# Altium footprint library DISP - LED.PcbLib: 18 footprints (part 1 of 2)
Each footprint in its own frame and in the unit in brackets; x right, y up, seen from the top. Pads: shape width x height; smd on the part's side, far side on the other; paste and mask are expansions set on the pad; w line width, h text height; cw(c..) or ccw(c..) is an arc to the next point about the centre after c.
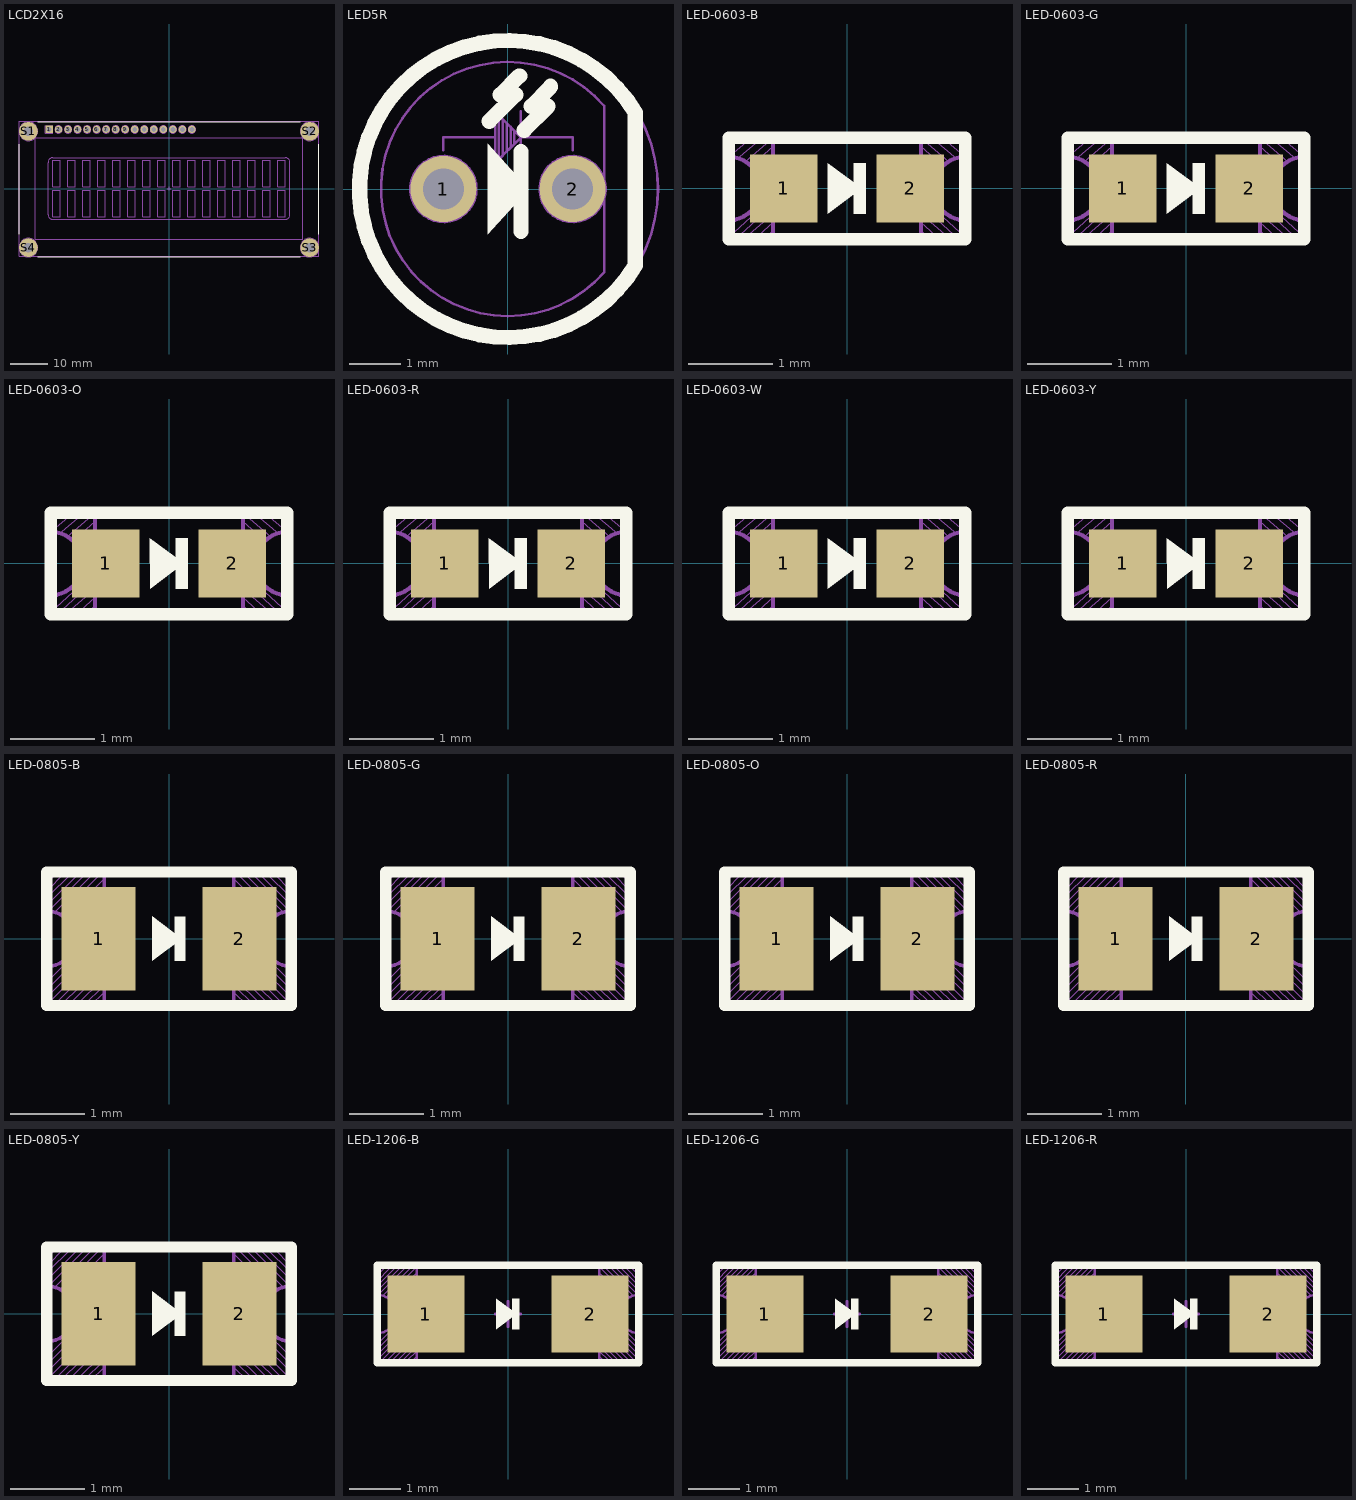
[diagram p0: the footprints below, top view; thin cyan lines are the x and y axes]

## LCD2X16 [mm]
pads (20):
  rect 2x2 hole 1.3: 1(-32,15.75)
  round 2 hole 1.3: 2(-29.46,15.75) 3(-26.92,15.75) 4(-24.38,15.75) 5(-21.84,15.75) 6(-19.3,15.75) 7(-16.76,15.75) 8(-14.22,15.75) 9(-11.68,15.75) 10(-9.14,15.75) 11(-6.6,15.75) 12(-4.06,15.75) 13(-1.52,15.75) 14(1.02,15.75) 15(3.56,15.75) 16(6.1,15.75)
  round 5 hole 2.5: S1(-37.5,15.25) S2(37.5,15.25) S3(37.5,-15.75) S4(-37.5,-15.75)
Top Overlay:
  lines w0.3: -40,-12.25 -40,11.75 ; -35,-18.25 35,-18.25 ; -35,17.75 35,17.75 ; 40,-12.25 40,11.75
Top HCB:
  drawing of 179 lines, arcs and shapes, not listed
3D body "User Library-LCD-5.STEP": height 12.8, standoff -5.5, extent -40,-18 40,18

## LED5R [mm] "LED, RED, 2 LEAD, 5mm"
height 8.6
pads (2):
  round 1.3 hole 0.8: 1(-1.27,0) 2(1.27,0)
Top Overlay:
  region: 0.406,0 -0.394,0.889 -0.394,-0.889
  lines w0.3: -0.368,1.333 0.152,1.854 -0.152,1.854 0.216,2.222 0.229,2.222 ; 0.254,-0.838 0.254,0.737 ; 0.318,1.156 0.787,1.626 0.457,1.626 0.838,2.007 0.838,2.019 ; 2.505,-1.503 cw(c0,0) 2.505,1.503 2.505,-1.503
Top HCB:
  circle w0.05: c1.27,0 r0.65
  circle w0.05: c-1.27,0 r0.65
  circle w0.05: c0,0 r2.95
  lines w0.05: -1.27,0.762 -1.27,1.016 -0.254,1.016 ; -0.254,0 0.254,0 ; -0.178,1.448 -0.178,0.584 ; -0.102,1.372 -0.102,0.66 -0.178,0.584 ; -0.025,1.295 -0.025,0.737 0.051,0.813 ; 0,-0.25 0,0.25 ; 0.051,1.219 0.051,0.813 ; 0.127,1.143 0.127,0.889 0.051,0.813 ; 0.254,0.508 0.254,1.524 ; 1.27,0.762 1.27,1.016 1.016,1.016 0.254,1.016 ; 1.889,1.637 ccw(c0,0) 1.897,-1.629 ; 1.892,-1.629 1.892,1.637 ; -0.254,0.508 -0.254,1.524 0.254,1.016 ; -0.254,0.508 0.254,1.016 ; -0.254,0.508 -0.178,0.584
3D body "SW3dPS-LEDd5R.STEP": height 12.31, standoff -2.49, extent -2.98,-3.01 2.44,3.01

## LED-0603-B [mm] "Chip Diode, 2-Leads, Body 1.60x0.80mm, IPC Medium Density"
height 0.36
pads (2):
  rect 0.8x0.8 smd: 1(-0.75,0) 2(0.75,0)
Top Overlay:
  region: 0.225,0.3 0.075,0.3 0.075,-0.3 0.225,-0.3
  region: -0.225,-0.3 -0.225,0.3 0.175,0
  lines w0.15: -1.4,-0.6 -1.4,0.6 1.4,0.6 1.4,-0.6 -1.4,-0.6
Top HCB:
  lines w0.01: -1.4,-0.575 -0.875,-0.1 ; -1.4,-0.487 -1.4,-0.45 -1.225,-0.325 ; -1.4,0.375 -1.125,0.6 ; -1.4,0.487 -1.275,0.6 ; -1.325,-0.6 -0.877,-0.2 ; -1.3,0.35 -1,0.6 ; -1.238,-0.612 -0.863,-0.288 ; -1.2,0.325 -0.875,0.6 ; -1.125,0.275 -0.875,0.5 ; -1.1,-0.6 -0.876,-0.399 ; -1.1,0.2 -0.875,0.4 ; -1.05,0.15 -0.875,0.3 ; -1.025,-0.125 -0.875,0 ; -1.025,-0.025 -0.875,0.1 ; -1.025,0.075 -0.875,0.2 ; -1,-0.6 -0.875,-0.5 ; 0.863,-0.288 1.238,-0.612 ; 0.875,-0.5 1,-0.6 ; 0.876,-0.399 1.1,-0.6 ; 0.875,-0.1 1.4,-0.575 ; 0.875,0 1.025,-0.125 ; 0.875,0.1 1.025,-0.025 ; 0.875,0.2 1.025,0.075 ; 0.875,0.3 1.05,0.15 ; 0.875,0.4 1.1,0.2 ; 0.875,0.5 1.125,0.275 ; 0.875,0.6 1.2,0.325 ; 0.877,-0.2 1.325,-0.6 ; 1,0.6 1.3,0.35 ; 1.125,0.6 1.4,0.375 ; 1.225,-0.325 1.4,-0.45 ; 1.275,0.6 1.4,0.487
  lines w0.05: -0.875,-0.6 -0.875,0.6 ; -0.1,0 0.1,0 ; 0,-0.1 0,0.1 ; 0.875,-0.6 0.875,0.575 ; -1.4,-0.6 -1.4,-0.375 ccw(c-1.4,0) -1.4,0.375 -1.4,0.6 1.4,0.6 1.4,0.375 ccw(c1.4,0) 1.4,-0.375 1.4,-0.6 -1.4,-0.6
3D body "User Library-LED_0603_B.STEP": height 0.6, standoff 0, extent -0.8,-0.4 0.8,0.4

## LED-0603-G [mm] "Chip Diode, 2-Leads, Body 1.60x0.80mm, IPC Medium Density"
height 0.36
pads (2):
  rect 0.8x0.8 smd: 1(-0.75,0) 2(0.75,0)
Top Overlay:
  region: 0.225,0.3 0.075,0.3 0.075,-0.3 0.225,-0.3
  region: -0.225,-0.3 -0.225,0.3 0.175,0
  lines w0.15: -1.4,-0.6 1.4,-0.6 1.4,0.6 -1.4,0.6 -1.4,-0.6
Top HCB:
  lines w0.01: -1.4,-0.575 -0.875,-0.1 ; -1.4,-0.487 -1.4,-0.45 -1.225,-0.325 ; -1.4,0.375 -1.125,0.6 ; -1.4,0.487 -1.275,0.6 ; -1.325,-0.6 -0.877,-0.2 ; -1.3,0.35 -1,0.6 ; -1.238,-0.612 -0.863,-0.288 ; -1.2,0.325 -0.875,0.6 ; -1.125,0.275 -0.875,0.5 ; -1.1,-0.6 -0.876,-0.399 ; -1.1,0.2 -0.875,0.4 ; -1.05,0.15 -0.875,0.3 ; -1.025,-0.125 -0.875,0 ; -1.025,-0.025 -0.875,0.1 ; -1.025,0.075 -0.875,0.2 ; -1,-0.6 -0.875,-0.5 ; 0.863,-0.288 1.238,-0.612 ; 0.875,-0.5 1,-0.6 ; 0.876,-0.399 1.1,-0.6 ; 0.875,-0.1 1.4,-0.575 ; 0.875,0 1.025,-0.125 ; 0.875,0.1 1.025,-0.025 ; 0.875,0.2 1.025,0.075 ; 0.875,0.3 1.05,0.15 ; 0.875,0.4 1.1,0.2 ; 0.875,0.5 1.125,0.275 ; 0.875,0.6 1.2,0.325 ; 0.877,-0.2 1.325,-0.6 ; 1,0.6 1.3,0.35 ; 1.125,0.6 1.4,0.375 ; 1.225,-0.325 1.4,-0.45 ; 1.275,0.6 1.4,0.487
  lines w0.05: -0.875,-0.6 -0.875,0.6 ; -0.1,0 0.1,0 ; 0,-0.1 0,0.1 ; 0.875,-0.6 0.875,0.575 ; -1.4,-0.6 1.4,-0.6 1.4,-0.375 cw(c1.4,0) 1.4,0.375 1.4,0.6 -1.4,0.6 -1.4,0.375 cw(c-1.4,0) -1.4,-0.375 -1.4,-0.6
3D body "User Library-LED_0603_G.STEP": height 0.6, standoff 0, extent -0.8,-0.4 0.8,0.4

## LED-0603-O [mm] "Chip Diode, 2-Leads, Body 1.60x0.80mm, IPC Medium Density"
height 0.36
pads (2):
  rect 0.8x0.8 smd: 1(-0.75,0) 2(0.75,0)
Top Overlay:
  region: 0.225,0.3 0.075,0.3 0.075,-0.3 0.225,-0.3
  region: -0.225,-0.3 -0.225,0.3 0.175,0
  lines w0.15: -1.4,-0.6 1.4,-0.6 1.4,0.6 -1.4,0.6 -1.4,-0.6
Top HCB:
  lines w0.01: -1.4,-0.575 -0.875,-0.1 ; -1.4,-0.487 -1.4,-0.45 -1.225,-0.325 ; -1.4,0.375 -1.125,0.6 ; -1.4,0.487 -1.275,0.6 ; -1.325,-0.6 -0.877,-0.2 ; -1.3,0.35 -1,0.6 ; -1.238,-0.612 -0.863,-0.288 ; -1.2,0.325 -0.875,0.6 ; -1.125,0.275 -0.875,0.5 ; -1.1,-0.6 -0.876,-0.399 ; -1.1,0.2 -0.875,0.4 ; -1.05,0.15 -0.875,0.3 ; -1.025,-0.125 -0.875,0 ; -1.025,-0.025 -0.875,0.1 ; -1.025,0.075 -0.875,0.2 ; -1,-0.6 -0.875,-0.5 ; 0.863,-0.288 1.238,-0.612 ; 0.875,-0.5 1,-0.6 ; 0.876,-0.399 1.1,-0.6 ; 0.875,-0.1 1.4,-0.575 ; 0.875,0 1.025,-0.125 ; 0.875,0.1 1.025,-0.025 ; 0.875,0.2 1.025,0.075 ; 0.875,0.3 1.05,0.15 ; 0.875,0.4 1.1,0.2 ; 0.875,0.5 1.125,0.275 ; 0.875,0.6 1.2,0.325 ; 0.877,-0.2 1.325,-0.6 ; 1,0.6 1.3,0.35 ; 1.125,0.6 1.4,0.375 ; 1.225,-0.325 1.4,-0.45 ; 1.275,0.6 1.4,0.487
  lines w0.05: -0.875,-0.6 -0.875,0.6 ; -0.1,0 0.1,0 ; 0,-0.1 0,0.1 ; 0.875,-0.6 0.875,0.575 ; -1.4,-0.6 1.4,-0.6 1.4,-0.375 cw(c1.4,0) 1.4,0.375 1.4,0.6 -1.4,0.6 -1.4,0.375 cw(c-1.4,0) -1.4,-0.375 -1.4,-0.6
3D body "User Library-0603 LED_ora.step": height 0.7, standoff 0, extent -0.8,-0.4 0.8,0.4

## LED-0603-R [mm] "Chip Diode, 2-Leads, Body 1.60x0.80mm, IPC Medium Density"
height 0.36
pads (2):
  rect 0.8x0.8 smd: 1(-0.75,0) 2(0.75,0)
Top Overlay:
  region: 0.225,0.3 0.075,0.3 0.075,-0.3 0.225,-0.3
  region: -0.225,-0.3 -0.225,0.3 0.175,0
  lines w0.15: -1.4,-0.6 -1.4,0.6 1.4,0.6 1.4,-0.6 -1.4,-0.6
Top HCB:
  lines w0.01: -1.4,-0.575 -0.875,-0.1 ; -1.4,-0.487 -1.4,-0.45 -1.225,-0.325 ; -1.4,0.375 -1.125,0.6 ; -1.4,0.487 -1.275,0.6 ; -1.325,-0.6 -0.877,-0.2 ; -1.3,0.35 -1,0.6 ; -1.238,-0.612 -0.863,-0.288 ; -1.2,0.325 -0.875,0.6 ; -1.125,0.275 -0.875,0.5 ; -1.1,-0.6 -0.876,-0.399 ; -1.1,0.2 -0.875,0.4 ; -1.05,0.15 -0.875,0.3 ; -1.025,-0.125 -0.875,0 ; -1.025,-0.025 -0.875,0.1 ; -1.025,0.075 -0.875,0.2 ; -1,-0.6 -0.875,-0.5 ; 0.863,-0.288 1.238,-0.612 ; 0.875,-0.5 1,-0.6 ; 0.876,-0.399 1.1,-0.6 ; 0.875,-0.1 1.4,-0.575 ; 0.875,0 1.025,-0.125 ; 0.875,0.1 1.025,-0.025 ; 0.875,0.2 1.025,0.075 ; 0.875,0.3 1.05,0.15 ; 0.875,0.4 1.1,0.2 ; 0.875,0.5 1.125,0.275 ; 0.875,0.6 1.2,0.325 ; 0.877,-0.2 1.325,-0.6 ; 1,0.6 1.3,0.35 ; 1.125,0.6 1.4,0.375 ; 1.225,-0.325 1.4,-0.45 ; 1.275,0.6 1.4,0.487
  lines w0.05: -0.875,-0.6 -0.875,0.6 ; -0.1,0 0.1,0 ; 0,-0.1 0,0.1 ; 0.875,-0.6 0.875,0.575 ; -1.4,-0.6 1.4,-0.6 1.4,-0.375 cw(c1.4,0) 1.4,0.375 1.4,0.6 -1.4,0.6 -1.4,0.375 cw(c-1.4,0) -1.4,-0.375 -1.4,-0.6
3D body "User Library-LED_0603_R.STEP": height 0.6, standoff 0, extent -0.8,-0.4 0.8,0.4

## LED-0603-W [mm] "Chip Diode, 2-Leads, Body 1.60x0.80mm, IPC Medium Density"
height 0.36
pads (2):
  rect 0.8x0.8 smd: 1(-0.75,0) 2(0.75,0)
Top Overlay:
  region: 0.225,0.3 0.075,0.3 0.075,-0.3 0.225,-0.3
  region: -0.225,-0.3 -0.225,0.3 0.175,0
  lines w0.15: -1.4,-0.6 -1.4,0.6 1.4,0.6 1.4,-0.6 -1.4,-0.6
Top HCB:
  lines w0.01: -1.4,-0.575 -0.875,-0.1 ; -1.4,-0.487 -1.4,-0.45 -1.225,-0.325 ; -1.4,0.375 -1.125,0.6 ; -1.4,0.487 -1.275,0.6 ; -1.325,-0.6 -0.877,-0.2 ; -1.3,0.35 -1,0.6 ; -1.238,-0.612 -0.863,-0.288 ; -1.2,0.325 -0.875,0.6 ; -1.125,0.275 -0.875,0.5 ; -1.1,-0.6 -0.876,-0.399 ; -1.1,0.2 -0.875,0.4 ; -1.05,0.15 -0.875,0.3 ; -1.025,-0.125 -0.875,0 ; -1.025,-0.025 -0.875,0.1 ; -1.025,0.075 -0.875,0.2 ; -1,-0.6 -0.875,-0.5 ; 0.863,-0.288 1.238,-0.612 ; 0.875,-0.5 1,-0.6 ; 0.876,-0.399 1.1,-0.6 ; 0.875,-0.1 1.4,-0.575 ; 0.875,0 1.025,-0.125 ; 0.875,0.1 1.025,-0.025 ; 0.875,0.2 1.025,0.075 ; 0.875,0.3 1.05,0.15 ; 0.875,0.4 1.1,0.2 ; 0.875,0.5 1.125,0.275 ; 0.875,0.6 1.2,0.325 ; 0.877,-0.2 1.325,-0.6 ; 1,0.6 1.3,0.35 ; 1.125,0.6 1.4,0.375 ; 1.225,-0.325 1.4,-0.45 ; 1.275,0.6 1.4,0.487
  lines w0.05: -0.875,-0.6 -0.875,0.6 ; -0.1,0 0.1,0 ; 0,-0.1 0,0.1 ; 0.875,-0.6 0.875,0.575 ; -1.4,-0.6 -1.4,-0.375 ccw(c-1.4,0) -1.4,0.375 -1.4,0.6 1.4,0.6 1.4,0.375 ccw(c1.4,0) 1.4,-0.375 1.4,-0.6 -1.4,-0.6
3D body "User Library-LED_0603_WS.STEP": height 0.6, standoff 0, extent -0.8,-0.4 0.8,0.4

## LED-0603-Y [mm] "Chip Diode, 2-Leads, Body 1.60x0.80mm, IPC Medium Density"
height 0.36
pads (2):
  rect 0.8x0.8 smd: 1(-0.75,0) 2(0.75,0)
Top Overlay:
  region: 0.225,0.3 0.075,0.3 0.075,-0.3 0.225,-0.3
  region: -0.225,-0.3 -0.225,0.3 0.175,0
  lines w0.15: -1.4,-0.6 1.4,-0.6 1.4,0.6 -1.4,0.6 -1.4,-0.6
Top HCB:
  lines w0.01: -1.4,-0.575 -0.875,-0.1 ; -1.4,-0.487 -1.4,-0.45 -1.225,-0.325 ; -1.4,0.375 -1.125,0.6 ; -1.4,0.487 -1.275,0.6 ; -1.325,-0.6 -0.877,-0.2 ; -1.3,0.35 -1,0.6 ; -1.238,-0.612 -0.863,-0.288 ; -1.2,0.325 -0.875,0.6 ; -1.125,0.275 -0.875,0.5 ; -1.1,-0.6 -0.876,-0.399 ; -1.1,0.2 -0.875,0.4 ; -1.05,0.15 -0.875,0.3 ; -1.025,-0.125 -0.875,0 ; -1.025,-0.025 -0.875,0.1 ; -1.025,0.075 -0.875,0.2 ; -1,-0.6 -0.875,-0.5 ; 0.863,-0.288 1.238,-0.612 ; 0.875,-0.5 1,-0.6 ; 0.876,-0.399 1.1,-0.6 ; 0.875,-0.1 1.4,-0.575 ; 0.875,0 1.025,-0.125 ; 0.875,0.1 1.025,-0.025 ; 0.875,0.2 1.025,0.075 ; 0.875,0.3 1.05,0.15 ; 0.875,0.4 1.1,0.2 ; 0.875,0.5 1.125,0.275 ; 0.875,0.6 1.2,0.325 ; 0.877,-0.2 1.325,-0.6 ; 1,0.6 1.3,0.35 ; 1.125,0.6 1.4,0.375 ; 1.225,-0.325 1.4,-0.45 ; 1.275,0.6 1.4,0.487
  lines w0.05: -0.875,-0.6 -0.875,0.6 ; -0.1,0 0.1,0 ; 0,-0.1 0,0.1 ; 0.875,-0.6 0.875,0.575 ; -1.4,-0.6 1.4,-0.6 1.4,-0.375 cw(c1.4,0) 1.4,0.375 1.4,0.6 -1.4,0.6 -1.4,0.375 cw(c-1.4,0) -1.4,-0.375 -1.4,-0.6
3D body "User Library-LED_0603_Y.STEP": height 0.6, standoff 0, extent -0.8,-0.4 0.8,0.4

## LED-0805-B [mm] "LED-0805-Blue"
height 0.8
pads (2):
  rect 1x1.4 smd: 1(-0.95,0) 2(0.95,0)
Top Overlay:
  region: 0.225,0.3 0.075,0.3 0.075,-0.3 0.225,-0.3
  region: -0.225,-0.3 -0.225,0.3 0.175,0
  lines w0.15: -1.65,-0.9 -1.65,0.9 1.65,0.9 1.65,-0.9 -1.65,-0.9
Top HCB:
  lines w0.01: -1.65,0.45 -1.2,0.9 ; -1.65,0.55 -1.3,0.9 ; -1.65,0.637 -1.4,0.9 ; -1.65,0.75 -1.5,0.9 ; -1.643,-0.883 -0.868,-0.108 ; -1.643,-0.783 -0.875,-0.025 ; -1.643,-0.683 -0.881,0.08 ; -1.643,-0.583 -0.875,0.175 ; -1.638,0.362 -1.1,0.9 -1.127,0.9 ; -1.556,-0.895 -0.875,-0.225 ; -1.526,0.374 -1,0.9 ; -1.468,-0.908 -0.875,-0.325 ; -1.463,0.337 -0.9,0.9 ; -1.394,0.293 -0.881,0.806 ; -1.368,-0.908 -0.868,-0.408 ; -1.337,0.237 -0.874,0.7 ; -1.301,-0.14 -0.881,0.28 ; -1.301,0.06 -0.868,0.492 ; -1.288,0.173 -0.875,0.575 ; -1.275,0 -0.87,0.394 ; -1.25,-0.9 -0.875,-0.525 ; -1.15,-0.9 -0.875,-0.625 ; -1.056,-0.895 -0.875,-0.725 ; -0.968,-0.908 -0.875,-0.825 ; 0.868,-0.408 1.368,-0.908 ; 0.868,-0.108 1.643,-0.883 ; 0.868,0.492 1.301,0.06 ; 0.869,0.394 1.275,0 ; 0.874,0.7 1.337,0.237 ; 0.875,-0.825 0.968,-0.908 ; 0.875,-0.725 1.055,-0.895 ; 0.875,-0.625 1.15,-0.9 ; 0.875,-0.525 1.25,-0.9 ; 0.875,-0.325 1.468,-0.908 ; 0.875,-0.225 1.555,-0.895 ; 0.875,-0.025 1.643,-0.783 ; 0.875,0.175 1.643,-0.583 ; 0.875,0.575 1.288,0.173 ; 0.88,0.08 1.643,-0.683 ; 0.88,0.28 1.301,-0.14 ; 0.881,0.806 1.394,0.293 ; 0.9,0.9 1.463,0.337 ; 1,0.9 1.526,0.374 ; 1.126,0.9 1.1,0.9 1.637,0.362 ; 1.2,0.9 1.65,0.45 ; 1.3,0.9 1.65,0.55 ; 1.4,0.9 1.65,0.637 ; 1.5,0.9 1.65,0.75
  lines w0.05: -1.65,-0.375 ccw(c-1.65,0) -1.65,0.375 -1.65,0.9 1.65,0.9 1.65,0.375 ccw(c1.65,0) 1.65,-0.375 ; -1.65,-0.375 -1.65,-0.9 1.65,-0.9 1.65,-0.375 ; -0.875,-0.9 -0.875,0.9 ; -0.1,0 0.1,0 ; 0,-0.1 0,0.1 ; 0.875,-0.9 0.875,0.9
3D body "User Library-led_0805-blue.step": height 1.1, standoff 0, extent -1.01,-0.625 1.01,0.625

## LED-0805-G [mm] "LED-0805-Green"
height 0.8
pads (2):
  rect 1x1.4 smd: 1(-0.95,0) 2(0.95,0)
Top Overlay:
  region: 0.225,0.3 0.075,0.3 0.075,-0.3 0.225,-0.3
  region: -0.225,-0.3 -0.225,0.3 0.175,0
  lines w0.15: -1.65,-0.9 -1.65,0.9 1.65,0.9 1.65,-0.9 -1.65,-0.9
Top HCB:
  lines w0.01: -1.65,0.45 -1.2,0.9 ; -1.65,0.55 -1.3,0.9 ; -1.65,0.637 -1.4,0.9 ; -1.65,0.75 -1.5,0.9 ; -1.643,-0.883 -0.868,-0.108 ; -1.643,-0.783 -0.875,-0.025 ; -1.643,-0.683 -0.881,0.08 ; -1.643,-0.583 -0.875,0.175 ; -1.638,0.362 -1.1,0.9 -1.127,0.9 ; -1.556,-0.895 -0.875,-0.225 ; -1.526,0.374 -1,0.9 ; -1.468,-0.908 -0.875,-0.325 ; -1.463,0.337 -0.9,0.9 ; -1.394,0.293 -0.881,0.806 ; -1.368,-0.908 -0.868,-0.408 ; -1.337,0.237 -0.874,0.7 ; -1.301,-0.14 -0.881,0.28 ; -1.301,0.06 -0.868,0.492 ; -1.288,0.173 -0.875,0.575 ; -1.275,0 -0.87,0.394 ; -1.25,-0.9 -0.875,-0.525 ; -1.15,-0.9 -0.875,-0.625 ; -1.056,-0.895 -0.875,-0.725 ; -0.968,-0.908 -0.875,-0.825 ; 0.868,-0.408 1.368,-0.908 ; 0.868,-0.108 1.643,-0.883 ; 0.868,0.492 1.301,0.06 ; 0.869,0.394 1.275,0 ; 0.874,0.7 1.337,0.237 ; 0.875,-0.825 0.968,-0.908 ; 0.875,-0.725 1.055,-0.895 ; 0.875,-0.625 1.15,-0.9 ; 0.875,-0.525 1.25,-0.9 ; 0.875,-0.325 1.468,-0.908 ; 0.875,-0.225 1.555,-0.895 ; 0.875,-0.025 1.643,-0.783 ; 0.875,0.175 1.643,-0.583 ; 0.875,0.575 1.288,0.173 ; 0.88,0.08 1.643,-0.683 ; 0.88,0.28 1.301,-0.14 ; 0.881,0.806 1.394,0.293 ; 0.9,0.9 1.463,0.337 ; 1,0.9 1.526,0.374 ; 1.126,0.9 1.1,0.9 1.637,0.362 ; 1.2,0.9 1.65,0.45 ; 1.3,0.9 1.65,0.55 ; 1.4,0.9 1.65,0.637 ; 1.5,0.9 1.65,0.75
  lines w0.05: -1.65,-0.375 ccw(c-1.65,0) -1.65,0.375 -1.65,0.9 1.65,0.9 1.65,0.375 ccw(c1.65,0) 1.65,-0.375 ; -1.65,-0.375 -1.65,-0.9 1.65,-0.9 1.65,-0.375 ; -0.875,-0.9 -0.875,0.9 ; -0.1,0 0.1,0 ; 0,-0.1 0,0.1 ; 0.875,-0.9 0.875,0.9
3D body "User Library-led_0805-Green.step": height 1.1, standoff 0, extent -1.01,-0.625 1.01,0.625

## LED-0805-O [mm] "LED-0805-Orange"
height 0.8
pads (2):
  rect 1x1.4 smd: 1(-0.95,0) 2(0.95,0)
Top Overlay:
  region: 0.225,0.3 0.075,0.3 0.075,-0.3 0.225,-0.3
  region: -0.225,-0.3 -0.225,0.3 0.175,0
  lines w0.15: -1.65,-0.9 -1.65,0.9 1.65,0.9 1.65,-0.9 -1.65,-0.9
Top HCB:
  lines w0.01: -1.65,0.45 -1.2,0.9 ; -1.65,0.55 -1.3,0.9 ; -1.65,0.637 -1.4,0.9 ; -1.65,0.75 -1.5,0.9 ; -1.643,-0.883 -0.868,-0.108 ; -1.643,-0.783 -0.875,-0.025 ; -1.643,-0.683 -0.881,0.08 ; -1.643,-0.583 -0.875,0.175 ; -1.638,0.362 -1.1,0.9 -1.127,0.9 ; -1.556,-0.895 -0.875,-0.225 ; -1.526,0.374 -1,0.9 ; -1.468,-0.908 -0.875,-0.325 ; -1.463,0.337 -0.9,0.9 ; -1.394,0.293 -0.881,0.806 ; -1.368,-0.908 -0.868,-0.408 ; -1.337,0.237 -0.874,0.7 ; -1.301,-0.14 -0.881,0.28 ; -1.301,0.06 -0.868,0.492 ; -1.288,0.173 -0.875,0.575 ; -1.275,0 -0.87,0.394 ; -1.25,-0.9 -0.875,-0.525 ; -1.15,-0.9 -0.875,-0.625 ; -1.056,-0.895 -0.875,-0.725 ; -0.968,-0.908 -0.875,-0.825 ; 0.868,-0.408 1.368,-0.908 ; 0.868,-0.108 1.643,-0.883 ; 0.868,0.492 1.301,0.06 ; 0.869,0.394 1.275,0 ; 0.874,0.7 1.337,0.237 ; 0.875,-0.825 0.968,-0.908 ; 0.875,-0.725 1.055,-0.895 ; 0.875,-0.625 1.15,-0.9 ; 0.875,-0.525 1.25,-0.9 ; 0.875,-0.325 1.468,-0.908 ; 0.875,-0.225 1.555,-0.895 ; 0.875,-0.025 1.643,-0.783 ; 0.875,0.175 1.643,-0.583 ; 0.875,0.575 1.287,0.173 ; 0.88,0.08 1.643,-0.683 ; 0.88,0.28 1.301,-0.14 ; 0.881,0.806 1.393,0.293 ; 0.9,0.9 1.463,0.337 ; 1,0.9 1.526,0.374 ; 1.126,0.9 1.1,0.9 1.637,0.362 ; 1.2,0.9 1.65,0.45 ; 1.3,0.9 1.65,0.55 ; 1.4,0.9 1.65,0.637 ; 1.5,0.9 1.65,0.75
  lines w0.05: -1.65,-0.375 -1.65,-0.9 1.65,-0.9 1.65,-0.375 ; -1.65,0.375 -1.65,0.9 1.65,0.9 1.65,0.375 ccw(c1.65,0) 1.65,-0.375 ; -1.65,-0.375 ccw(c-1.65,0) -1.65,0.375 ; -0.875,-0.9 -0.875,0.9 ; -0.1,0 0.1,0 ; 0,-0.1 0,0.1 ; 0.875,-0.9 0.875,0.9
3D body "User Library-led_0805-orange.step": height 1.1, standoff 0, extent -1.01,-0.625 1.01,0.625

## LED-0805-R [mm] "LED-0805-Red"
height 0.02
pads (2):
  rect 1x1.4 smd: 1(-0.95,0) 2(0.95,0)
Top Overlay:
  region: 0.225,0.3 0.075,0.3 0.075,-0.3 0.225,-0.3
  region: -0.225,-0.3 -0.225,0.3 0.175,0
  lines w0.15: -1.65,-0.9 -1.65,0.9 1.65,0.9 1.65,-0.9 -1.65,-0.9
Top HCB:
  lines w0.01: -1.65,0.45 -1.2,0.9 ; -1.65,0.55 -1.3,0.9 ; -1.65,0.637 -1.4,0.9 ; -1.65,0.75 -1.5,0.9 ; -1.643,-0.882 -0.868,-0.107 ; -1.643,-0.782 -0.875,-0.025 ; -1.643,-0.682 -0.88,0.08 ; -1.643,-0.582 -0.875,0.175 ; -1.637,0.363 -1.1,0.9 -1.126,0.9 ; -1.555,-0.895 -0.875,-0.225 ; -1.526,0.374 -1,0.9 ; -1.468,-0.907 -0.875,-0.325 ; -1.463,0.337 -0.9,0.9 ; -1.394,0.293 -0.881,0.806 ; -1.368,-0.907 -0.868,-0.407 ; -1.337,0.237 -0.874,0.7 ; -1.301,-0.14 -0.88,0.28 ; -1.301,0.06 -0.868,0.493 ; -1.288,0.173 -0.875,0.575 ; -1.275,0 -0.869,0.394 ; -1.25,-0.9 -0.875,-0.525 ; -1.15,-0.9 -0.875,-0.625 ; -1.055,-0.895 -0.875,-0.725 ; -0.968,-0.907 -0.875,-0.825 ; 0.868,-0.407 1.368,-0.907 ; 0.868,-0.107 1.643,-0.882 ; 0.868,0.493 1.301,0.06 ; 0.87,0.394 1.275,0 ; 0.874,0.7 1.337,0.237 ; 0.875,-0.825 0.968,-0.907 ; 0.875,-0.725 1.056,-0.895 ; 0.875,-0.625 1.15,-0.9 ; 0.875,-0.525 1.25,-0.9 ; 0.875,-0.325 1.468,-0.907 ; 0.875,-0.225 1.556,-0.895 ; 0.875,-0.025 1.643,-0.782 ; 0.875,0.175 1.643,-0.582 ; 0.875,0.575 1.288,0.173 ; 0.881,0.08 1.643,-0.682 ; 0.881,0.28 1.301,-0.14 ; 0.881,0.806 1.394,0.293 ; 0.9,0.9 1.463,0.337 ; 1,0.9 1.526,0.374 ; 1.127,0.9 1.1,0.9 1.638,0.363 ; 1.2,0.9 1.65,0.45 ; 1.3,0.9 1.65,0.55 ; 1.4,0.9 1.65,0.637 ; 1.5,0.9 1.65,0.75
  lines w0.05: -0.875,-0.9 -0.875,0.9 ; -0.1,0 0.1,0 ; 0,-0.1 0,0.1 ; 0.875,-0.9 0.875,0.9 ; -1.65,-0.9 1.65,-0.9 1.65,-0.375 cw(c1.65,0) 1.65,0.375 1.65,0.9 -1.65,0.9 -1.65,0.375 cw(c-1.65,0) -1.65,-0.375 -1.65,-0.9
3D body "User Library-led_0805-red.step": height 1.1, standoff 0, extent -1.01,-0.625 1.01,0.625

## LED-0805-Y [mm] "LED-0805-Yellow"
height 0.8
pads (2):
  rect 1x1.4 smd: 1(-0.95,0) 2(0.95,0)
Top Overlay:
  region: 0.225,0.3 0.075,0.3 0.075,-0.3 0.225,-0.3
  region: -0.225,-0.3 -0.225,0.3 0.175,0
  lines w0.15: -1.65,-0.9 -1.65,0.9 1.65,0.9 1.65,-0.9 -1.65,-0.9
Top HCB:
  lines w0.01: -1.65,0.45 -1.2,0.9 ; -1.65,0.55 -1.3,0.9 ; -1.65,0.637 -1.4,0.9 ; -1.65,0.75 -1.5,0.9 ; -1.643,-0.882 -0.868,-0.107 ; -1.643,-0.782 -0.875,-0.025 ; -1.643,-0.682 -0.881,0.08 ; -1.643,-0.582 -0.875,0.175 ; -1.637,0.363 -1.1,0.9 -1.127,0.9 ; -1.556,-0.895 -0.875,-0.225 ; -1.526,0.374 -1,0.9 ; -1.468,-0.907 -0.875,-0.325 ; -1.463,0.337 -0.9,0.9 ; -1.394,0.293 -0.881,0.806 ; -1.368,-0.907 -0.868,-0.407 ; -1.337,0.237 -0.874,0.7 ; -1.301,-0.14 -0.881,0.28 ; -1.301,0.06 -0.868,0.493 ; -1.288,0.173 -0.875,0.575 ; -1.275,0 -0.869,0.394 ; -1.25,-0.9 -0.875,-0.525 ; -1.15,-0.9 -0.875,-0.625 ; -1.056,-0.895 -0.875,-0.725 ; -0.968,-0.907 -0.875,-0.825 ; 0.868,-0.407 1.368,-0.907 ; 0.868,-0.107 1.643,-0.882 ; 0.868,0.493 1.301,0.06 ; 0.869,0.394 1.275,0 ; 0.874,0.7 1.337,0.237 ; 0.875,-0.825 0.968,-0.907 ; 0.875,-0.725 1.056,-0.895 ; 0.875,-0.625 1.15,-0.9 ; 0.875,-0.525 1.25,-0.9 ; 0.875,-0.325 1.468,-0.907 ; 0.875,-0.225 1.556,-0.895 ; 0.875,-0.025 1.643,-0.782 ; 0.875,0.175 1.643,-0.582 ; 0.875,0.575 1.288,0.173 ; 0.881,0.08 1.643,-0.682 ; 0.881,0.28 1.301,-0.14 ; 0.881,0.806 1.394,0.293 ; 0.9,0.9 1.463,0.337 ; 1,0.9 1.526,0.374 ; 1.127,0.9 1.1,0.9 1.637,0.363 ; 1.2,0.9 1.65,0.45 ; 1.3,0.9 1.65,0.55 ; 1.4,0.9 1.65,0.637 ; 1.5,0.9 1.65,0.75
  lines w0.05: -0.875,-0.9 -0.875,0.9 ; -0.1,0 0.1,0 ; 0,-0.1 0,0.1 ; 0.875,-0.9 0.875,0.9 ; -1.65,-0.9 1.65,-0.9 1.65,-0.375 cw(c1.65,0) 1.65,0.375 1.65,0.9 -1.65,0.9 -1.65,0.375 cw(c-1.65,0) -1.65,-0.375 -1.65,-0.9
3D body "User Library-led_0805-yellow.step": height 1.1, standoff 0, extent -1.01,-0.625 1.01,0.625

## LED-1206-B [mm] "LED-1206-Blue"
height 1.27
pads (2):
  rect 1.5x1.5 smd mask+0.1: 1(-1.6,0) 2(1.6,0)
Top Overlay:
  region: 0.225,0.3 0.075,0.3 0.075,-0.3 0.225,-0.3
  region: -0.225,-0.3 -0.225,0.3 0.175,0
  lines w0.15: -2.55,-0.95 -2.55,0.95 2.55,0.95 2.55,-0.95 -2.55,-0.95
Top HCB:
  lines w0.01: -2.55,0.45 -2.1,0.9 ; -2.55,0.55 -2.2,0.9 ; -2.55,0.638 -2.3,0.9 ; -2.55,0.75 -2.4,0.9 ; -2.543,-0.882 -1.768,-0.107 ; -2.543,-0.782 -1.775,-0.025 ; -2.543,-0.682 -1.781,0.08 ; -2.543,-0.582 -1.775,0.175 ; -2.538,0.363 -2,0.9 -2.027,0.9 ; -2.456,-0.895 -1.775,-0.225 ; -2.426,0.374 -1.9,0.9 ; -2.368,-0.907 -1.775,-0.325 ; -2.363,0.337 -1.8,0.9 ; -2.294,0.293 -1.781,0.806 ; -2.268,-0.907 -1.768,-0.407 ; -2.237,0.237 -1.774,0.7 ; -2.201,-0.14 -1.781,0.28 ; -2.201,0.06 -1.768,0.493 ; -2.188,0.173 -1.775,0.575 ; -2.175,0 -1.77,0.394 ; -2.15,-0.9 -1.775,-0.525 ; -2.05,-0.9 -1.775,-0.625 ; -1.956,-0.895 -1.775,-0.725 ; -1.868,-0.907 -1.775,-0.825 ; 1.768,-0.407 2.268,-0.907 ; 1.768,-0.107 2.543,-0.882 ; 1.768,0.493 2.201,0.06 ; 1.77,0.394 2.175,0 ; 1.774,0.7 2.237,0.237 ; 1.775,-0.825 1.868,-0.907 ; 1.775,-0.725 1.956,-0.895 ; 1.775,-0.625 2.05,-0.9 ; 1.775,-0.525 2.15,-0.9 ; 1.775,-0.325 2.368,-0.907 ; 1.775,-0.225 2.456,-0.895 ; 1.775,-0.025 2.543,-0.782 ; 1.775,0.175 2.543,-0.582 ; 1.775,0.575 2.188,0.173 ; 1.781,0.08 2.543,-0.682 ; 1.781,0.28 2.201,-0.14 ; 1.781,0.806 2.294,0.293 ; 1.8,0.9 2.363,0.337 ; 1.9,0.9 2.426,0.374 ; 2.027,0.9 2,0.9 2.538,0.363 ; 2.1,0.9 2.55,0.45 ; 2.2,0.9 2.55,0.55 ; 2.3,0.9 2.55,0.638 ; 2.4,0.9 2.55,0.75
  lines w0.05: -1.775,-0.9 -1.775,0.9 ; -0.25,0 0.25,0 ; 0,-0.25 0,0.25 ; 1.775,-0.9 1.775,0.9 ; -2.55,-0.95 2.55,-0.95 2.55,-0.375 cw(c2.55,0) 2.55,0.375 2.55,0.95 -2.55,0.95 -2.55,0.375 cw(c-2.55,0) -2.55,-0.375 -2.55,-0.95
3D body "User Library-led_1206-blue.step": height 1.1, standoff 0, extent -1.61,-0.8 1.61,0.8

## LED-1206-G [mm] "LED-1206-Green"
pads (2):
  rect 1.5x1.5 smd mask+0.1: 1(-1.6,0) 2(1.6,0)
Top Overlay:
  region: 0.225,0.3 0.075,0.3 0.075,-0.3 0.225,-0.3
  region: -0.225,-0.3 -0.225,0.3 0.175,0
  lines w0.15: -2.55,-0.95 2.55,-0.95 2.55,0.95 -2.55,0.95 -2.55,-0.95
Top HCB:
  lines w0.01: -2.55,0.45 -2.1,0.9 ; -2.55,0.55 -2.2,0.9 ; -2.55,0.638 -2.3,0.9 ; -2.55,0.75 -2.4,0.9 ; -2.543,-0.882 -1.768,-0.107 ; -2.543,-0.782 -1.775,-0.025 ; -2.543,-0.682 -1.781,0.08 ; -2.543,-0.582 -1.775,0.175 ; -2.538,0.363 -2,0.9 -2.027,0.9 ; -2.456,-0.895 -1.775,-0.225 ; -2.426,0.374 -1.9,0.9 ; -2.368,-0.907 -1.775,-0.325 ; -2.363,0.337 -1.8,0.9 ; -2.294,0.293 -1.781,0.806 ; -2.268,-0.907 -1.768,-0.407 ; -2.237,0.237 -1.774,0.7 ; -2.201,-0.14 -1.781,0.28 ; -2.201,0.06 -1.768,0.493 ; -2.188,0.173 -1.775,0.575 ; -2.175,0 -1.77,0.394 ; -2.15,-0.9 -1.775,-0.525 ; -2.05,-0.9 -1.775,-0.625 ; -1.956,-0.895 -1.775,-0.725 ; -1.868,-0.907 -1.775,-0.825 ; 1.768,-0.407 2.268,-0.907 ; 1.768,-0.107 2.543,-0.882 ; 1.768,0.493 2.201,0.06 ; 1.77,0.394 2.175,0 ; 1.774,0.7 2.237,0.237 ; 1.775,-0.825 1.868,-0.907 ; 1.775,-0.725 1.956,-0.895 ; 1.775,-0.625 2.05,-0.9 ; 1.775,-0.525 2.15,-0.9 ; 1.775,-0.325 2.368,-0.907 ; 1.775,-0.225 2.456,-0.895 ; 1.775,-0.025 2.543,-0.782 ; 1.775,0.175 2.543,-0.582 ; 1.775,0.575 2.188,0.173 ; 1.781,0.08 2.543,-0.682 ; 1.781,0.28 2.201,-0.14 ; 1.781,0.806 2.294,0.293 ; 1.8,0.9 2.363,0.337 ; 1.9,0.9 2.426,0.374 ; 2.027,0.9 2,0.9 2.538,0.363 ; 2.1,0.9 2.55,0.45 ; 2.2,0.9 2.55,0.55 ; 2.3,0.9 2.55,0.638 ; 2.4,0.9 2.55,0.75
  lines w0.05: -1.775,-0.9 -1.775,0.9 ; -0.25,0 0.25,0 ; 0,-0.25 0,0.25 ; 1.775,-0.9 1.775,0.9 ; -2.55,-0.95 -2.55,-0.375 ccw(c-2.55,0) -2.55,0.375 -2.55,0.95 2.55,0.95 2.55,0.375 ccw(c2.55,0) 2.55,-0.375 2.55,-0.95 -2.55,-0.95
3D body "User Library-led_1206-green.step": height 1.1, standoff 0, extent -1.61,-0.8 1.61,0.8

## LED-1206-R [mm] "LED-1206-Red"
pads (2):
  rect 1.5x1.5 smd mask+0.1: 1(-1.6,0) 2(1.6,0)
Top Overlay:
  region: 0.225,0.3 0.075,0.3 0.075,-0.3 0.225,-0.3
  region: -0.225,-0.3 -0.225,0.3 0.175,0
  lines w0.15: -2.55,-0.95 2.55,-0.95 2.55,0.95 -2.55,0.95 -2.55,-0.95
Top HCB:
  lines w0.01: -2.55,0.45 -2.1,0.9 ; -2.55,0.55 -2.2,0.9 ; -2.55,0.638 -2.3,0.9 ; -2.55,0.75 -2.4,0.9 ; -2.543,-0.882 -1.768,-0.107 ; -2.543,-0.782 -1.775,-0.025 ; -2.543,-0.682 -1.781,0.08 ; -2.543,-0.582 -1.775,0.175 ; -2.538,0.363 -2,0.9 -2.027,0.9 ; -2.456,-0.895 -1.775,-0.225 ; -2.426,0.374 -1.9,0.9 ; -2.368,-0.907 -1.775,-0.325 ; -2.363,0.337 -1.8,0.9 ; -2.294,0.293 -1.781,0.806 ; -2.268,-0.907 -1.768,-0.407 ; -2.237,0.237 -1.774,0.7 ; -2.201,-0.14 -1.781,0.28 ; -2.201,0.06 -1.768,0.493 ; -2.188,0.173 -1.775,0.575 ; -2.175,0 -1.77,0.394 ; -2.15,-0.9 -1.775,-0.525 ; -2.05,-0.9 -1.775,-0.625 ; -1.956,-0.895 -1.775,-0.725 ; -1.868,-0.907 -1.775,-0.825 ; 1.768,-0.407 2.268,-0.907 ; 1.768,-0.107 2.543,-0.882 ; 1.768,0.493 2.201,0.06 ; 1.77,0.394 2.175,0 ; 1.774,0.7 2.237,0.237 ; 1.775,-0.825 1.868,-0.907 ; 1.775,-0.725 1.956,-0.895 ; 1.775,-0.625 2.05,-0.9 ; 1.775,-0.525 2.15,-0.9 ; 1.775,-0.325 2.368,-0.907 ; 1.775,-0.225 2.456,-0.895 ; 1.775,-0.025 2.543,-0.782 ; 1.775,0.175 2.543,-0.582 ; 1.775,0.575 2.188,0.173 ; 1.781,0.08 2.543,-0.682 ; 1.781,0.28 2.201,-0.14 ; 1.781,0.806 2.294,0.293 ; 1.8,0.9 2.363,0.337 ; 1.9,0.9 2.426,0.374 ; 2.027,0.9 2,0.9 2.538,0.363 ; 2.1,0.9 2.55,0.45 ; 2.2,0.9 2.55,0.55 ; 2.3,0.9 2.55,0.638 ; 2.4,0.9 2.55,0.75
  lines w0.05: -1.775,-0.9 -1.775,0.9 ; -0.25,0 0.25,0 ; 0,-0.25 0,0.25 ; 1.775,-0.9 1.775,0.9 ; -2.55,-0.95 -2.55,-0.375 ccw(c-2.55,0) -2.55,0.375 -2.55,0.95 2.55,0.95 2.55,0.375 ccw(c2.55,0) 2.55,-0.375 2.55,-0.95 -2.55,-0.95
3D body "User Library-led_1206-red.step": height 1.1, standoff 0, extent -1.61,-0.8 1.61,0.8